# EAGLE library part STM8S003_EVB_NOPWR (library STM8S003_EVB_shield)
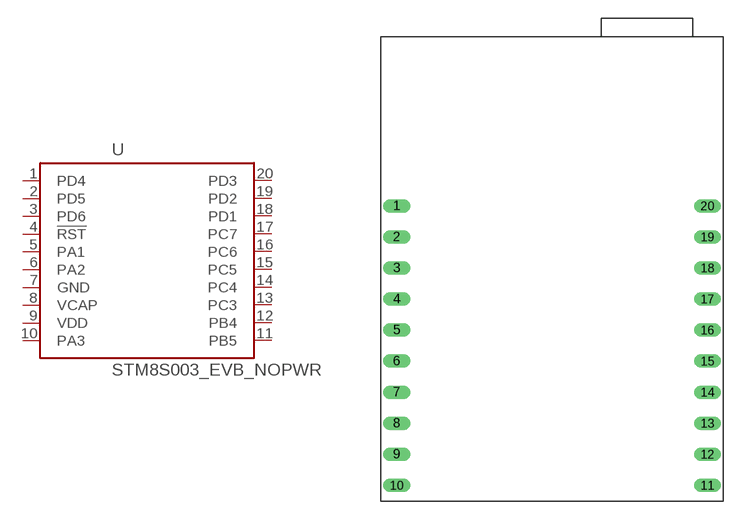
[diagram p0: symbol with the pads of STM8S003_EVB_NO_PWR; footprint STM8S003_EVB_NO_PWR]

Designator prefix U

## STM8S003_EVB_NOPWR  [STM8S003_EVB_NO_PWR]
1  PD4
2  PD5
3  PD6
4  !RST  in
5  PA1
6  PA2
7  GND  pas
8  VCAP  sup
9  VDD  pas
10  PA3
11  PB5
12  PB4
13  PC3
14  PC4
15  PC5
16  PC6
17  PC7
18  PD1
19  PD2
20  PD3

## Footprint STM8S003_EVB_NO_PWR (pad centres in mm)
drill 0.6 long: 1 1.3,24.16; 2 1.3,21.62; 3 1.3,19.08; 4 1.3,16.54; 5 1.3,14; 6 1.3,11.46; 7 1.3,8.92; 8 1.3,6.38; 9 1.3,3.84; 10 1.3,1.3; 11 26.7,1.3; 12 26.7,3.84; 13 26.7,6.38; 14 26.7,8.92; 15 26.7,11.46; 16 26.7,14; 17 26.7,16.54; 18 26.7,19.08; 19 26.7,21.62; 20 26.7,24.16